# Altium footprint library VR.PcbLib: 1 footprints
Each footprint in its own frame and in the unit in brackets; x right, y up, seen from the top. Pads: shape width x height; smd on the part's side, far side on the other; paste and mask are expansions set on the pad; w line width, h text height; cw(c..) or ccw(c..) is an arc to the next point about the centre after c.
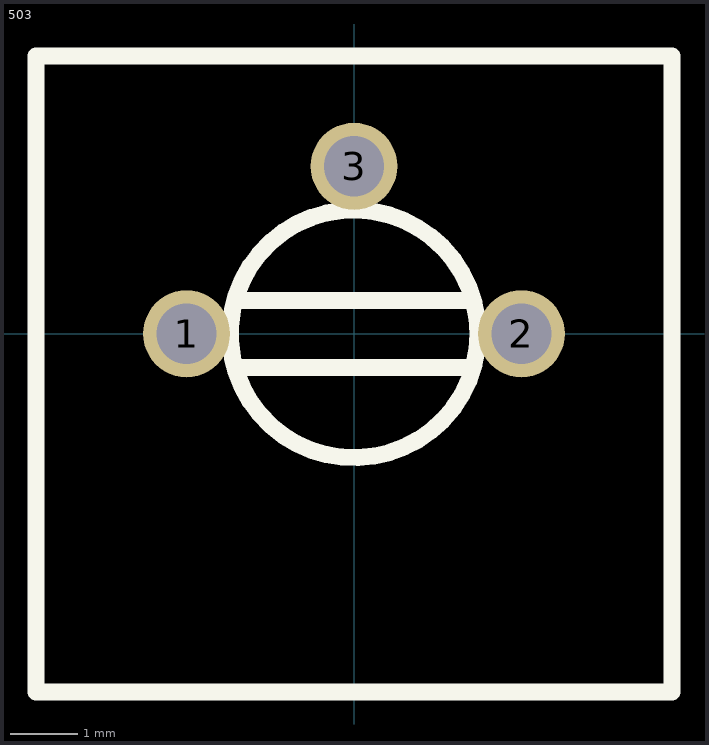
[diagram p0: the footprint, top view; thin cyan lines are the x and y axes]

## 503 [mm]
pads (3):
  round 1.3 hole 0.9: 1(-2.5,0) 2(2.5,0) 3(0,2.5)
Top Overlay:
  circle w0.254: c0,0 r1.85
  lines w0.254: -1.702,0.5 1.651,0.5 ; -1.676,-0.5 1.676,-0.5 ; -4.75,-5.35 4.75,-5.35 4.75,4.15 -4.75,4.15 -4.75,-5.35
3D body: height 11.05, standoff 11, extent -1.753,-0.483 1.727,0.508
3D body: height 11.01, standoff 11, extent -1.829,-1.803 1.857,1.889
3D body: height 11, standoff 6, extent -4.623,-5.207 4.623,4.039
3D body: height 10.5, standoff 0, extent 2.134,-0.356 2.831,0.343
3D body: height 10.5, standoff 0, extent -0.374,2.146 0.323,2.845
3D body: height 10.5, standoff 0, extent -2.819,-0.324 -2.122,0.375